# Altium footprint library CC3-1205SR-E.PCBLIB: 1 footprints
Each footprint in its own frame and in the unit in brackets; x right, y up, seen from the top. Pads: shape width x height; smd on the part's side, far side on the other; paste and mask are expansions set on the pad; w line width, h text height; cw(c..) or ccw(c..) is an arc to the next point about the centre after c.
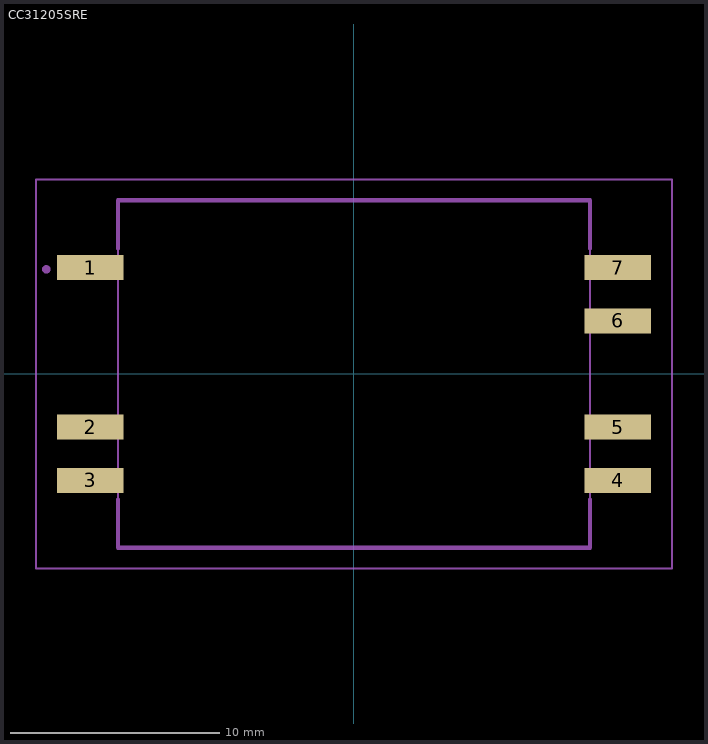
[diagram p0: the footprint, top view; thin cyan lines are the x and y axes]

## CC31205SRE [mil]
pads (7):
  rect 125.98x47.24 smd: 1(-496.06,200) 2(-496.06,-100) 3(-496.06,-200) 4(496.06,-200) 5(496.06,-100) 6(496.06,100) 7(496.06,200)
tDocu:
  lines w3.94: -598.43,-366.14 -598.43,366.14 598.43,366.14 598.43,-366.14 -598.43,-366.14 ; -444.09,-326.77 -444.09,326.77 444.09,326.77 444.09,-326.77 -444.09,-326.77
tPlace:
  lines w7.87: -444.09,-236.22 -444.09,-326.77 444.09,-326.77 444.09,-236.22 ; -444.09,236.22 -444.09,326.77 444.09,326.77 444.09,236.22 ; -582.68,196.85 ccw(c-578.74,196.85) -574.8,196.85 ccw(c-578.74,196.85) -582.68,196.85
3D body "CC3-1205SR-E.stp": height 346.46, standoff 0, extent -514.96,-326.77 514.96,326.77